# Altium schematic symbol library BJT_NPN_Toshiba_TMBT3904,LM.SchLib: 1 symbol
Pins are listed as number, name and electrical type; pins without a type are passive.

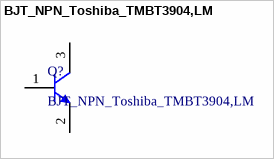
[diagram p0: symbol BJT_NPN_Toshiba_TMBT3904,LM]

## BJT_NPN_Toshiba_TMBT3904,LM
designator Q?
Bipolar Transistors - BJT Transistor for Low Freq. Amplification; Supplier 1: Mouser; Supplier Part Number 1: 757-TMBT3904LM
pins: 1 B, 2 E, 3 C